# EAGLE library part HEADER-7 (library homemade-hardware)
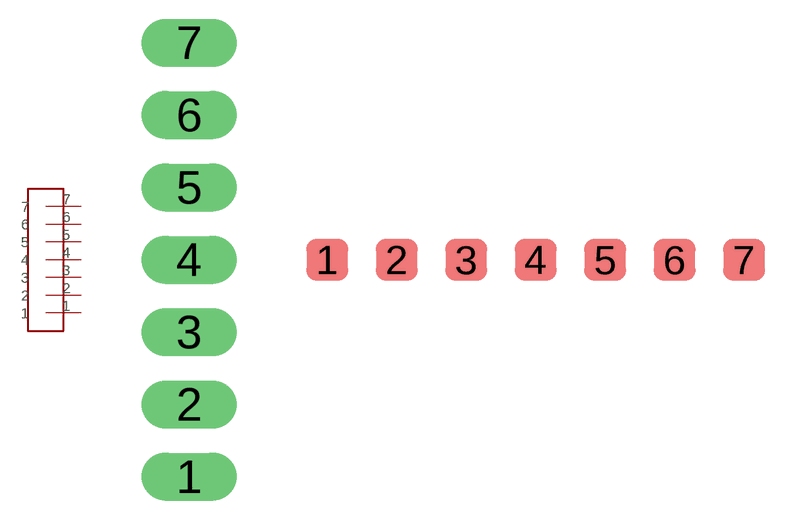
[diagram p2: symbol with the pads of HEADER-7; footprints HEADER-7, TESTPOINT-7]

Designator prefix -

## HEADER-7  [HEADER-7]
1  1
2  2
3  3
4  4
5  5
6  6
7  7

## HEADER-7-TESTPOINT  [TESTPOINT-7]
Pads as for HEADER-7

## Footprint HEADER-7 (pad centres in mm)
drill 1.016 pad 1.676 long: 1 0,0; 2 0,2.54; 3 0,5.08; 4 0,7.62; 5 0,10.16; 6 0,12.7; 7 0,15.24

## Footprint TESTPOINT-7 (pad centres in mm)
smd 1.524 x 1.524: 1 0,0; 2 2.54,0; 3 5.08,0; 4 7.62,0; 5 10.16,0; 6 12.7,0; 7 15.24,0